# Altium footprint library fastic_readout.PcbLib: 28 footprints (part 1 of 2)
Each footprint in its own frame and in the unit in brackets; x right, y up, seen from the top. Pads: shape width x height; smd on the part's side, far side on the other; paste and mask are expansions set on the pad; w line width, h text height; cw(c..) or ccw(c..) is an arc to the next point about the centre after c.
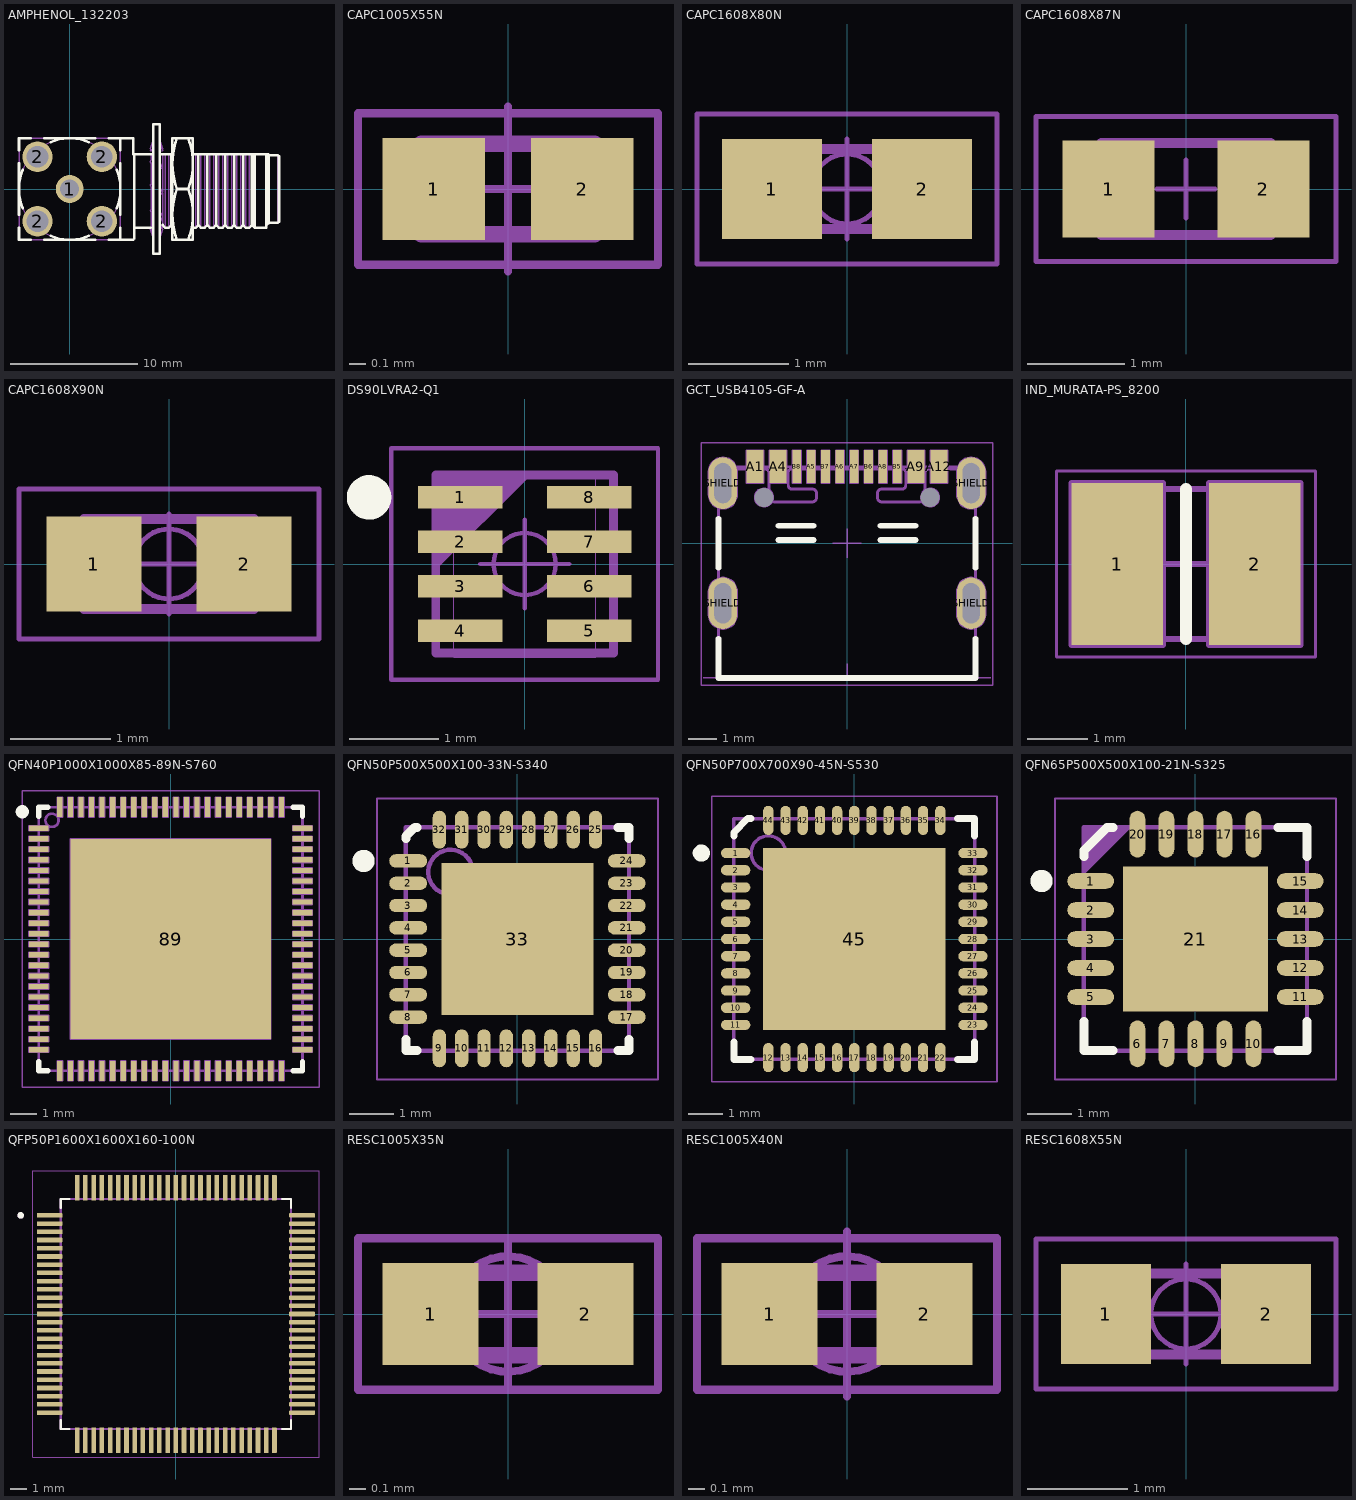
[diagram p0: the footprints below, top view; thin cyan lines are the x and y axes]

## AMPHENOL_132203 [mm]
pads (5):
  round 2.2 hole 1.5: 1(0,0)
  round 2.4 hole 1.7: 2(-2.54,-2.54) 2(-2.54,2.54) 2(2.54,-2.54) 2(2.54,2.54)
Top Overlay:
  lines w0.2: -4,-3.06 -4,-4 -3.06,-4 ; -4,-2.02 -4,2.02 ; -4,3.06 -4,4 -3.06,4 ; -3.702,-1.514 cw(c0,0) -3.702,1.514 ; -2.02,-4 2.02,-4 ; -2.02,4 2.02,4 ; -1.514,-3.702 ccw(c0,0) 1.514,-3.702 ; -1.514,3.702 cw(c0,0) 1.514,3.702 ; 3.06,-4 5,-4 5.1,-3.9 5.1,2.75 ; 3.06,4 5,4 5,2.75 6.6,2.75 ; 3.702,-1.514 ccw(c0,0) 3.702,1.514 ; 4,-4 4,-3.06 ; 4,-2.02 4,2.02 ; 4,3.06 4,4 ; 5.1,-3.05 6.373,-3.05 ; 7.1,2.75 8.1,2.75 ; 7.316,-2.825 7.517,-3.05 7.821,-3.05 8.022,-2.825 ; 8.022,2.75 8.022,-2.825 ; 8.1,-2.912 8.022,-2.825 ; 8.457,-4 cw(c13.877,-2) 8.457,0 ; 8.457,4 ccw(c13.877,2) 8.457,0 ; 9.343,-4 ccw(c3.923,-2) 9.343,0 ; 9.343,4 cw(c3.923,2) 9.343,0 ; 9.7,-3.05 9.938,-3.05 10.139,-2.825 ; 9.7,2.75 15.621,2.75 15.7,2.675 15.7,-2.675 15.507,-2.858 ; 10.139,2.75 10.139,-2.825 ; 10.844,2.75 10.844,-2.825 ; 11.55,2.75 11.55,-2.825 ; 12.255,2.75 12.255,-2.825 ; 12.961,2.75 12.961,-2.825 ; 13.666,2.75 13.666,-2.825 ; 14.372,2.75 14.372,-2.825 ; 14.573,2.75 14.573,-3.05 ; 15.507,2.75 15.507,-3.05 14.573,-3.05 ; 15.7,-2.665 16.4,-2.665 16.5,-2.565 16.5,2.565 16.4,2.665 15.7,2.665 ; 8.457,0 9.343,0 ; 10.139,-2.825 10.339,-3.05 10.643,-3.05 10.844,-2.825 ; 10.844,-2.825 11.045,-3.05 11.349,-3.05 11.55,-2.825 ; 11.55,-2.825 11.751,-3.05 12.055,-3.05 12.255,-2.825 ; 12.255,-2.825 12.456,-3.05 12.76,-3.05 12.961,-2.825 ; 12.961,-2.825 13.162,-3.05 13.466,-3.05 13.666,-2.825 ; 13.666,-2.825 13.867,-3.05 14.171,-3.05 14.372,-2.825 ; 14.372,-2.825 14.573,-3.05 ; 6.6,-5.1 6.6,5.1 7.1,5.1 7.1,-5.1 6.6,-5.1 ; 8.1,-4 8.1,4 9.7,4 9.7,-4 8.1,-4
Mechanical 8:
  lines w0.05: -3.04,-2.54 -2.54,-2.54 ; -3.04,2.54 -2.54,2.54 ; -2.54,-3.04 -2.54,-2.54 ; -2.54,-2.04 -2.54,-2.54 ; -2.54,2.04 -2.54,2.54 ; -2.54,3.04 -2.54,2.54 ; -2.04,-2.54 -2.54,-2.54 ; -2.04,2.54 -2.54,2.54 ; -0.5,0 0,0 ; 0,-0.5 0,0 ; 0,0.5 0,0 ; 0.5,0 0,0 ; 2.04,-2.54 2.54,-2.54 ; 2.04,2.54 2.54,2.54 ; 2.54,-3.04 2.54,-2.54 ; 2.54,-2.04 2.54,-2.54 ; 2.54,2.04 2.54,2.54 ; 2.54,3.04 2.54,2.54 ; 3.04,-2.54 2.54,-2.54 ; 3.04,2.54 2.54,2.54
Mechanical 14:
  circle w0.1: c0,0 r4
  lines w0.1: 4,-4 4,4 ; 5.1,-3.05 6.373,-3.05 ; 5.1,2.75 5.1,-3.9 5,-4 -4,-4 -4,4 5,4 5,2.75 6.6,2.75 ; 6.41,-2.991 6.41,-1.747 ; 6.41,-1.649 6.41,0.189 ; 6.41,0.336 6.41,2.064 ; 6.41,2.277 6.41,2.75 ; 6.413,-3.148 6.352,-3.181 ; 6.413,3.148 6.352,3.001 ; 6.433,-3.195 6.352,-3.181 ; 6.473,-2.98 6.6,-2.837 ; 6.52,3.091 6.352,3.001 ; 6.6,-3.897 6.352,-3.181 ; 6.6,-3.595 6.352,-3.001 6.6,-2.957 ; 6.6,-2.206 ccw(c5.598,-2.351) 6.352,-1.676 ; 6.6,-1.92 6.352,-1.676 ; 6.6,-1.56 6.352,-1.676 ; 6.6,-0.139 6.352,0.29 6.6,0.488 ; 6.6,1.798 6.352,2.145 6.6,2.71 ; 6.6,2.957 6.352,3.001 ; 6.6,3.048 6.352,3.181 6.6,3.897 ; 7.1,-3.881 7.348,-3.181 7.1,-3.048 ; 7.1,-2.701 7.348,-2.145 7.1,-1.798 ; 7.1,-0.49 7.348,-0.29 7.1,0.139 ; 7.1,1.56 7.348,1.676 ; 7.1,1.909 7.348,1.676 ; 7.1,2.107 7.348,1.676 ; 7.1,2.75 8.1,2.75 ; 7.1,2.957 7.348,3.001 7.1,3.579 ; 7.1,3.881 7.348,3.181 ; 7.113,-3.055 7.316,-2.825 ; 7.18,-3.091 7.348,-3.001 ; 7.186,-2.972 7.348,-3.001 ; 7.265,3.195 7.348,3.181 ; 7.285,-3.147 7.348,-3.001 ; 7.285,3.147 7.348,3.181 ; 7.316,-2.215 7.316,-2.825 ; 7.316,-2.101 7.316,-0.315 ; 7.316,-0.236 7.316,1.661 ; 7.316,1.72 7.316,2.75 ; 7.517,2.75 7.517,-3.05 ; 7.821,2.75 7.821,-3.05 ; 8.022,2.75 8.022,-2.825 ; 8.1,-2.912 8.022,-2.825 ; 8.457,-4 cw(c13.877,-2) 8.457,0 ; 8.457,4 ccw(c13.877,2) 8.457,0 ; 9.343,-4 ccw(c3.923,-2) 9.343,0 ; 9.343,4 cw(c3.923,2) 9.343,0 ; 9.7,-3.05 9.938,-3.05 ; 9.7,2.75 15.621,2.75 15.7,2.675 15.7,-2.675 15.507,-2.858 ; 9.938,2.75 9.938,-3.05 ; 10.139,2.75 10.139,-2.825 ; 10.339,2.75 10.339,-3.05 ; 10.644,2.75 10.643,-3.05 ; 10.844,2.75 10.844,-2.825 ; 11.045,2.75 11.045,-3.05 ; 11.349,2.75 11.349,-3.05 ; 11.55,2.75 11.55,-2.825 ; 11.751,2.75 11.751,-3.05 ; 12.055,2.75 12.055,-3.05 ; 12.255,2.75 12.255,-2.825 ; 12.456,2.75 12.456,-3.05 ; 12.76,2.75 12.76,-3.05 ; 12.961,2.75 12.961,-2.825 ; 13.162,2.75 13.162,-3.05 ; 13.466,2.75 13.466,-3.05 ; 13.666,2.75 13.666,-2.825 ; 13.867,2.75 13.867,-3.05 ; 14.171,2.75 14.171,-3.05 ; 14.372,2.75 14.372,-2.825 ; 14.573,2.75 14.573,-3.05 ; 15.507,2.75 15.507,-3.05 14.573,-3.05 ; 15.7,-2.665 16.4,-2.665 ; 15.7,2.665 16.4,2.665 ; 7.316,-2.825 7.517,-3.05 ; 7.517,-3.05 7.821,-3.05 ; 7.821,-3.05 8.022,-2.825 ; 8.457,0 9.343,0 ; 9.938,-3.05 10.139,-2.825 ; 10.139,-2.825 10.339,-3.05 ; 10.339,-3.05 10.643,-3.05 ; 10.643,-3.05 10.844,-2.825 ; 10.844,-2.825 11.045,-3.05 ; 11.045,-3.05 11.349,-3.05 ; 11.349,-3.05 11.55,-2.825 ; 11.55,-2.825 11.751,-3.05 ; 11.751,-3.05 12.055,-3.05 ; 12.055,-3.05 12.255,-2.825 ; 12.255,-2.825 12.456,-3.05 ; 12.456,-3.05 12.76,-3.05 ; 12.76,-3.05 12.961,-2.825 ; 12.961,-2.825 13.162,-3.05 ; 13.162,-3.05 13.466,-3.05 ; 13.466,-3.05 13.666,-2.825 ; 13.666,-2.825 13.867,-3.05 ; 13.867,-3.05 14.171,-3.05 ; 14.171,-3.05 14.372,-2.825 ; 14.372,-2.825 14.573,-3.05 ; 16.4,-2.665 16.4,2.665 ; 16.4,-2.665 16.5,-2.565 16.5,2.565 16.4,2.665 ; 6.6,-5.1 6.6,5.1 7.1,5.1 7.1,-5.1 6.6,-5.1 ; 8.1,-4 8.1,4 9.7,4 9.7,-4 8.1,-4
3D body "AMPHENOL_132203_2.stp": height 10.97, standoff 1.73, extent 8.1,-4 9.7,4
3D body "AMPHENOL_132203_1.stp": height 11.45, standoff 1.25, extent 6.352,-5.1 7.348,5.1
3D body "AMPHENOL_132203.stp": height 10.44, standoff -3.94, extent -4,-4 16.5,4

## CAPC1005X55N [mm]
pads (2):
  rect 0.62x0.62 smd: 1(-0.45,0) 2(0.45,0)
Mechanical 14:
  lines w0.1: -0.525,-0.275 0.525,-0.275 0.525,0.275 -0.525,0.275 -0.525,-0.275
Mechanical 15:
  lines w0.05: -0.5,0 0.5,0 ; 0,-0.5 0,0.5 ; -0.91,-0.46 0.91,-0.46 0.91,0.46 -0.91,0.46 -0.91,-0.46
3D body "CAPC1005X55N.stp": height 0.55, standoff 0, extent -0.525,-0.275 0.525,0.275

## CAPC1608X80N [mm]
pads (2):
  rect 1x1 smd: 1(-0.75,0) 2(0.75,0)
Mechanical 14:
  lines w0.1: -0.8,-0.4 0.8,-0.4 0.8,0.4 -0.8,0.4 -0.8,-0.4
Mechanical 15:
  circle w0.05: c0,0 r0.35
  lines w0.05: -0.5,0 0.5,0 ; 0,-0.5 0,0.5 ; -1.5,-0.75 1.5,-0.75 1.5,0.75 -1.5,0.75 -1.5,-0.75
3D body "CAPC1608X80N.stp": height 0.8, standoff 0, extent -0.875,-0.475 0.875,0.475

## CAPC1608X87N [mm]
pads (2):
  rect 0.95x1 smd: 1(-0.8,0) 2(0.8,0)
Mechanical 14:
  lines w0.1: -0.875,-0.475 0.875,-0.475 0.875,0.475 -0.875,0.475 -0.875,-0.475
Mechanical 15:
  lines w0.05: -0.3,0 0.3,0 ; 0,-0.3 0,0.3 ; -1.55,-0.75 -1.55,0.75 1.55,0.75 1.55,-0.75 -1.55,-0.75
3D body "CAPC1608X87N.stp": height 0.87, standoff 0, extent -0.875,-0.475 0.875,0.475

## CAPC1608X90N [mm]
pads (2):
  rect 0.95x0.95 smd: 1(-0.75,0) 2(0.75,0)
Mechanical 14:
  lines w0.1: -0.85,-0.45 0.85,-0.45 0.85,0.45 -0.85,0.45 -0.85,-0.45
Mechanical 15:
  circle w0.05: c0,0 r0.35
  lines w0.05: -0.5,0 0.5,0 ; 0,-0.5 0,0.5 ; -1.5,-0.75 1.5,-0.75 1.5,0.75 -1.5,0.75 -1.5,-0.75
3D body "CAPC1608X90N.stp": height 0.9, standoff 0, extent -0.85,-0.45 0.85,0.45

## DS90LVRA2-Q1 [mm]
pads (8):
  rect 0.95x0.25 smd: 1(-0.725,0.75) 2(-0.725,0.25) 3(-0.725,-0.25) 4(-0.725,-0.75) 5(0.725,-0.75) 6(0.725,-0.25) 7(0.725,0.25) 8(0.725,0.75)
Top Overlay:
  circle w0.25: c-1.75,0.75 r0.125
Mechanical 8:
  lines w0.001: -0.8,-1.05 0.8,-1.05 0.8,1.05 -0.8,1.05 -0.8,-1.05
Mechanical 14:
  lines w0.1: -1,0 0,1 ; -1,0.1 -0.1,1 ; -1,0.2 -0.2,1 ; -1,0.3 -0.3,1 ; -1,0.4 -0.4,1 ; -1,0.5 -0.5,1 ; -1,0.6 -0.6,1 ; -1,0.7 -0.7,1 ; -1,0.8 -0.8,1 ; -1,0.9 -0.9,1 ; -1,-1 -1,1 1,1 1,-1 -1,-1
Mechanical 15:
  circle w0.05: c0,0 r0.35
  lines w0.05: -0.5,0 0.5,0 ; 0,-0.5 0,0.5 ; -1.5,-1.3 1.5,-1.3 1.5,1.3 -1.5,1.3 -1.5,-1.3
3D body "SON50P200X200X80-7N-R61X142.stp": height 0.8, standoff 0, extent -1,-1 1,1

## GCT_USB4105-GF-A [mm]
pads (18):
  rect 0.6x1.15 smd: A1(-3.2,2.665) A4(-2.4,2.665) A9(2.4,2.665) A12(3.2,2.665)
  rect 0.3x1.15 smd: A5(-1.25,2.665) A6(-0.25,2.665) A7(0.25,2.665) A8(1.25,2.665) B5(1.75,2.665) B6(0.75,2.665) B7(-0.75,2.665) B8(-1.75,2.665)
  round 0.15 hole 0.65 mask+0.25: MEC1(-2.89,1.59) MEC2(2.89,1.59)
  oval 1x1.8 hole 0.6 slot 1.4 at 90 deg: SHIELD(-4.32,-2.09) SHIELD(-4.32,2.09) SHIELD(4.32,-2.09) SHIELD(4.32,2.09)
Top Overlay:
  lines w0.2: -4.47,-3.327 -4.47,-4.69 4.47,-4.69 4.47,-3.327 ; -4.47,-0.853 -4.47,0.853 ; -2.384,0.11 -1.169,0.11 ; -2.384,0.61 -1.169,0.61 ; 1.167,0.11 2.382,0.11 ; 1.167,0.61 2.382,0.61 ; 4.47,-0.853 4.47,0.853
Mechanical 8:
  circle w0.05: c2.89,1.59 r0.325
  circle w0.05: c-2.89,1.59 r0.325
  lines w0.05: -5,-4.69 5,-4.69 ; -4.52,-2.09 -4.32,-2.09 ; -4.52,2.09 -4.32,2.09 ; -4.32,-2.29 -4.32,-2.09 ; -4.32,-1.89 -4.32,-2.09 ; -4.32,1.89 -4.32,2.09 ; -4.32,2.29 -4.32,2.09 ; -4.12,-2.09 -4.32,-2.09 ; -4.12,2.09 -4.32,2.09 ; -3.09,1.59 -2.89,1.59 ; -2.89,1.39 -2.89,1.59 ; -2.89,1.79 -2.89,1.59 ; -2.69,1.59 -2.89,1.59 ; -0.5,0 0,0 ; 0,-4.69 0,-4.19 ; 0,-0.5 0,0 ; 0,0.5 0,0 ; 0.5,0 0,0 ; 2.69,1.59 2.89,1.59 ; 2.89,1.39 2.89,1.59 ; 2.89,1.79 2.89,1.59 ; 3.09,1.59 2.89,1.59 ; 4.12,-2.09 4.32,-2.09 ; 4.12,2.09 4.32,2.09 ; 4.32,-2.29 4.32,-2.09 ; 4.32,-1.89 4.32,-2.09 ; 4.32,1.89 4.32,2.09 ; 4.32,2.29 4.32,2.09 ; 4.52,-2.09 4.32,-2.09 ; 4.52,2.09 4.32,2.09 ; -3.5,3.24 -2.9,3.24 ; -3.5,3.24 -3.5,2.09 -2.9,2.09 -2.9,3.24 ; -3.5,3.24 -3.2,2.665 -2.9,3.24 ; -2.7,3.24 -2.1,3.24 ; -2.7,3.24 -2.7,2.09 -2.1,2.09 -2.1,3.24 ; -2.7,3.24 -2.4,2.665 -2.1,3.24 ; -1.9,3.24 -1.6,3.24 ; -1.9,3.24 -1.9,2.09 -1.6,2.09 -1.6,3.24 ; -1.9,3.24 -1.75,2.665 -1.6,3.24 ; -1.4,3.24 -1.1,3.24 ; -1.4,3.24 -1.4,2.09 -1.1,2.09 -1.1,3.24 ; -1.4,3.24 -1.25,2.665 -1.1,3.24 ; -0.9,3.24 -0.6,3.24 ; -0.9,3.24 -0.9,2.09 -0.6,2.09 -0.6,3.24 ; -0.9,3.24 -0.75,2.665 -0.6,3.24 ; -0.4,3.24 -0.1,3.24 ; -0.4,3.24 -0.4,2.09 -0.1,2.09 -0.1,3.24 ; -0.4,3.24 -0.25,2.665 -0.1,3.24 ; 0.1,3.24 0.4,3.24 ; 0.1,3.24 0.1,2.09 0.4,2.09 0.4,3.24 ; 0.1,3.24 0.25,2.665 0.4,3.24 ; 0.6,3.24 0.9,3.24 ; 0.6,3.24 0.6,2.09 0.9,2.09 0.9,3.24 ; 0.6,3.24 0.75,2.665 0.9,3.24 ; 1.1,3.24 1.4,3.24 ; 1.1,3.24 1.1,2.09 1.4,2.09 1.4,3.24 ; 1.1,3.24 1.25,2.665 1.4,3.24 ; 1.6,3.24 1.9,3.24 ; 1.6,3.24 1.6,2.09 1.9,2.09 1.9,3.24 ; 1.6,3.24 1.75,2.665 1.9,3.24 ; 2.1,3.24 2.7,3.24 ; 2.1,3.24 2.1,2.09 2.7,2.09 2.7,3.24 ; 2.1,3.24 2.4,2.665 2.7,3.24 ; 2.9,3.24 3.5,3.24 ; 2.9,3.24 2.9,2.09 3.5,2.09 3.5,3.24 ; 2.9,3.24 3.2,2.665 3.5,3.24 ; -4.82,-2.49 ccw(c-4.32,-2.49) -3.82,-2.49 -3.82,-1.69 ccw(c-4.32,-1.69) -4.82,-1.69 -4.82,-2.49 ; -4.82,1.69 ccw(c-4.32,1.69) -3.82,1.69 -3.82,2.49 ccw(c-4.32,2.49) -4.82,2.49 -4.82,1.69 ; -4.62,-2.49 ccw(c-4.32,-2.49) -4.02,-2.49 -4.02,-1.69 ccw(c-4.32,-1.69) -4.62,-1.69 -4.62,-2.49 ; -4.62,1.69 ccw(c-4.32,1.69) -4.02,1.69 -4.02,2.49 ccw(c-4.32,2.49) -4.62,2.49 -4.62,1.69 ; 3.82,-2.49 ccw(c4.32,-2.49) 4.82,-2.49 4.82,-1.69 ccw(c4.32,-1.69) 3.82,-1.69 3.82,-2.49 ; 3.82,1.69 ccw(c4.32,1.69) 4.82,1.69 4.82,2.49 ccw(c4.32,2.49) 3.82,2.49 3.82,1.69 ; 4.02,-2.49 ccw(c4.32,-2.49) 4.62,-2.49 4.62,-1.69 ccw(c4.32,-1.69) 4.02,-1.69 4.02,-2.49 ; 4.02,1.69 ccw(c4.32,1.69) 4.62,1.69 4.62,2.49 ccw(c4.32,2.49) 4.02,2.49 4.02,1.69
  text "PCB Edge" at -3.297,-4.207 h1
Mechanical 14:
  lines w0.1: -4.47,1.96 -4.237,1.96 ccw(c-4.237,2.055) -4.143,2.055 -4.143,2.473 cw(c-4.031,2.473) -4.031,2.585 -2.86,2.585 cw(c-2.86,2.435) -2.71,2.435 -2.71,1.635 ccw(c-2.51,1.635) -2.51,1.435 -1.21,1.435 ccw(c-1.21,1.585) -1.06,1.585 -1.06,1.735 ccw(c-1.21,1.735) -1.21,1.885 -1.917,1.885 cw(c-1.917,2.013) -2.045,2.013 -2.045,2.456 cw(c-1.917,2.456) -1.917,2.585 1.917,2.585 cw(c1.917,2.456) 2.045,2.456 2.045,2.013 cw(c1.917,2.013) 1.917,1.885 1.21,1.885 ccw(c1.21,1.735) 1.06,1.735 1.06,1.585 ccw(c1.21,1.585) 1.21,1.435 2.51,1.435 ccw(c2.51,1.635) 2.71,1.635 2.71,2.435 cw(c2.86,2.435) 2.86,2.585 4.031,2.585 cw(c4.031,2.473) 4.142,2.473 4.142,2.055 ccw(c4.237,2.055) 4.237,1.96 4.47,1.96 ; -3.425,2.66 -3.425,3.01 -3.225,3.01 -3.225,2.66 ; -3.175,2.66 -3.175,3.01 -2.975,3.01 -2.975,2.66 ; -2.625,2.66 -2.625,3.01 -2.425,3.01 -2.425,2.66 ; -2.384,0.11 -1.169,0.11 ; -2.384,0.61 -1.169,0.61 ; -2.375,2.66 -2.375,3.01 -2.175,3.01 -2.175,2.66 ; -1.85,2.66 -1.85,3.01 -1.65,3.01 -1.65,2.66 ; -1.35,2.66 -1.35,3.01 -1.15,3.01 -1.15,2.66 ; -0.85,2.66 -0.85,3.01 -0.65,3.01 -0.65,2.66 ; -0.35,2.66 -0.35,3.01 -0.15,3.01 -0.15,2.66 ; 0.15,2.66 0.15,3.01 0.35,3.01 0.35,2.66 ; 0.65,2.66 0.65,3.01 0.85,3.01 0.85,2.66 ; 1.15,2.66 1.15,3.01 1.35,3.01 1.35,2.66 ; 1.167,0.11 2.382,0.11 ; 1.167,0.61 2.382,0.61 ; 1.65,2.66 1.65,3.01 1.85,3.01 1.85,2.66 ; 2.175,2.66 2.175,3.01 2.375,3.01 2.375,2.66 ; 2.425,2.66 2.425,3.01 2.625,3.01 2.625,2.66 ; 2.975,2.66 2.975,3.01 3.175,3.01 3.175,2.66 ; 3.225,2.66 3.225,3.01 3.425,3.01 3.425,2.66 ; -4.47,-4.69 4.47,-4.69 4.47,2.66 -4.47,2.66 -4.47,-4.69
Mechanical 15:
  lines w0.05: -5.07,-4.94 -5.07,3.49 5.07,3.49 5.07,-4.94 -5.07,-4.94
3D body "GCT_USB4105-GF-A.stp": height 3.26, standoff -0.95, extent -4.47,-4.69 4.47,3.01

## IND_MURATA-PS_8200 [mm]
pads (2):
  rect 1.52x2.7 smd: 1(-1.145,0) 2(1.145,0)
Top Overlay:
  lines w0.2: 0,-1.25 0,1.25
Mechanical 8:
  lines w0.1: -1.645,0 -1.145,0 ; -1.145,-0.5 -1.145,0 ; -1.145,0.5 -1.145,0 ; -0.645,0 -1.145,0 ; -0.5,0 0,0 ; 0,-0.5 0,0 ; 0,0.5 0,0 ; 0.5,0 0,0 ; 0.645,0 1.145,0 ; 1.145,-0.5 1.145,0 ; 1.145,0.5 1.145,0 ; 1.645,0 1.145,0 ; -1.905,-1.35 -1.905,1.35 -0.385,1.35 -0.385,-1.35 -1.905,-1.35 ; 0.385,-1.35 0.385,1.35 1.905,1.35 1.905,-1.35 0.385,-1.35
Mechanical 14:
  lines w0.1: -1.193,-1.25 cw(c-1.193,-1.15) -1.293,-1.15 -1.293,1.15 cw(c-1.193,1.15) -1.193,1.25 ; 1.193,-1.25 ccw(c1.193,-1.15) 1.293,-1.15 1.293,1.15 ccw(c1.193,1.15) 1.193,1.25 ; -1.6,-1.25 -1.6,1.25 1.6,1.25 1.6,-1.25 -1.6,-1.25
Mechanical 15:
  lines w0.05: -2.155,-1.55 2.155,-1.55 2.155,1.55 -2.155,1.55 -2.155,-1.55
3D body "IND_MURATA-PS_8200.stp": height 2.3, standoff 0, extent -1.6,-1.25 1.6,1.25

## QFN40P1000X1000X85-89N-S760 [mm]
pads (89):
  rect 0.75x0.2 smd: 1(-5,4.2) 2(-5,3.8) 3(-5,3.4) 4(-5,3) 5(-5,2.6) 6(-5,2.2) 7(-5,1.8) 8(-5,1.4) 9(-5,1) 10(-5,0.6) 11(-5,0.2) 12(-5,-0.2) 13(-5,-0.6) 14(-5,-1) 15(-5,-1.4) 16(-5,-1.8) 17(-5,-2.2) 18(-5,-2.6) 19(-5,-3) 20(-5,-3.4) 21(-5,-3.8) 22(-5,-4.2) 45(5,-4.2) 46(5,-3.8) 47(5,-3.4) 48(5,-3) 49(5,-2.6) 50(5,-2.2) 51(5,-1.8) 52(5,-1.4) 53(5,-1) 54(5,-0.6) 55(5,-0.2) 56(5,0.2) 57(5,0.6) 58(5,1) 59(5,1.4) 60(5,1.8) 61(5,2.2) 62(5,2.6) 63(5,3) 64(5,3.4) 65(5,3.8) 66(5,4.2)
  rect 0.2x0.75 smd: 23(-4.2,-5) 24(-3.8,-5) 25(-3.4,-5) 26(-3,-5) 27(-2.6,-5) 28(-2.2,-5) 29(-1.8,-5) 30(-1.4,-5) 31(-1,-5) 32(-0.6,-5) 33(-0.2,-5) 34(0.2,-5) 35(0.6,-5) 36(1,-5) 37(1.4,-5) 38(1.8,-5) 39(2.2,-5) 40(2.6,-5) 41(3,-5) 42(3.4,-5) 43(3.8,-5) 44(4.2,-5) 67(4.2,5) 68(3.8,5) 69(3.4,5) 70(3,5) 71(2.6,5) 72(2.2,5) 73(1.8,5) 74(1.4,5) 75(1,5) 76(0.6,5) 77(0.2,5) 78(-0.2,5) 79(-0.6,5) 80(-1,5) 81(-1.4,5) 82(-1.8,5) 83(-2.2,5) 84(-2.6,5) 85(-3,5) 86(-3.4,5) 87(-3.8,5) 88(-4.2,5)
  rect 7.6x7.6 smd: 89(0,0)
Top Overlay:
  circle w0.25: c-5.625,4.825 r0.125
  lines w0.2: -5,-4.65 -5,-5 -4.65,-5 ; -5,4.65 -5,5 -4.65,5 ; 4.65,-5 5,-5 5,-4.65 ; 4.65,5 5,5 5,4.65
Top Paste:
  region: -2.6,-2.6 -2.6,-0.42 -0.42,-0.42 -0.42,-2.6
  region: 0.42,-2.6 0.42,-0.42 2.6,-0.42 2.6,-2.6
  region: -2.6,0.42 -2.6,2.6 -0.42,2.6 -0.42,0.42
  region: 0.42,0.42 0.42,2.6 2.6,2.6 2.6,0.42
Mechanical 8:
  drawing of 536 lines, arcs and shapes, not listed
Mechanical 14:
  circle w0.1: c-4.5,4.5 r0.25
  circle w0.1: c-4.5,4.5 r0.25
  lines w0.1: -5,-5 5,-5 5,5 -5,5 -5,-5
Mechanical 15:
  circle w0.05: c0,0 r0.35
  lines w0.05: -0.5,0 0.5,0 ; 0,-0.5 0,0.5 ; -5.625,-5.625 5.625,-5.625 5.625,5.625 -5.625,5.625 -5.625,-5.625
3D body "QFN40P1000X1000X85-89N-S760.stp": height 0.8, standoff 0, extent -5,-5 5,5

## QFN50P500X500X100-33N-S340 [mm]
pads (33):
  oval 0.85x0.3 smd: 1(-2.45,1.75) 2(-2.45,1.25) 3(-2.45,0.75) 4(-2.45,0.25) 5(-2.45,-0.25) 6(-2.45,-0.75) 7(-2.45,-1.25) 8(-2.45,-1.75) 17(2.45,-1.75) 18(2.45,-1.25) 19(2.45,-0.75) 20(2.45,-0.25) 21(2.45,0.25) 22(2.45,0.75) 23(2.45,1.25) 24(2.45,1.75)
  oval 0.3x0.85 smd: 9(-1.75,-2.45) 10(-1.25,-2.45) 11(-0.75,-2.45) 12(-0.25,-2.45) 13(0.25,-2.45) 14(0.75,-2.45) 15(1.25,-2.45) 16(1.75,-2.45) 25(1.75,2.45) 26(1.25,2.45) 27(0.75,2.45) 28(0.25,2.45) 29(-0.25,2.45) 30(-0.75,2.45) 31(-1.25,2.45) 32(-1.75,2.45)
  rect 3.4x3.4 smd: 33(0,0)
Top Overlay:
  circle w0.25: c-3.45,1.75 r0.125
  lines w0.2: -2.5,-2.25 -2.5,-2.5 -2.25,-2.5 ; -2.5,2.25 -2.5,2.3 -2.3,2.5 -2.25,2.5 ; 2.25,-2.5 2.5,-2.5 2.5,-2.25 ; 2.25,2.5 2.5,2.5 2.5,2.25
Mechanical 14:
  circle w0.1: c-1.5,1.5 r0.5
  lines w0.1: -2.5,-2.5 2.5,-2.5 2.5,2.5 -2.5,2.5 -2.5,-2.5
Mechanical 15:
  circle w0.05: c0,0 r0.35
  lines w0.05: -0.5,0 0.5,0 ; 0,-0.5 0,0.5 ; -3.15,-3.15 3.15,-3.15 3.15,3.15 -3.15,3.15 -3.15,-3.15
3D body "QFN50P500X500X100-33N-S340.stp": height 1, standoff 0, extent -2.5,-2.5 2.5,2.5

## QFN50P700X700X90-45N-S530 [mm]
pads (45):
  oval 0.85x0.3 smd: 1(-3.45,2.5) 2(-3.45,2) 3(-3.45,1.5) 4(-3.45,1) 5(-3.45,0.5) 6(-3.45,0) 7(-3.45,-0.5) 8(-3.45,-1) 9(-3.45,-1.5) 10(-3.45,-2) 11(-3.45,-2.5) 23(3.45,-2.5) 24(3.45,-2) 25(3.45,-1.5) 26(3.45,-1) 27(3.45,-0.5) 28(3.45,0) 29(3.45,0.5) 30(3.45,1) 31(3.45,1.5) 32(3.45,2) 33(3.45,2.5)
  oval 0.3x0.85 smd: 12(-2.5,-3.45) 13(-2,-3.45) 14(-1.5,-3.45) 15(-1,-3.45) 16(-0.5,-3.45) 17(0,-3.45) 18(0.5,-3.45) 19(1,-3.45) 20(1.5,-3.45) 21(2,-3.45) 22(2.5,-3.45) 34(2.5,3.45) 35(2,3.45) 36(1.5,3.45) 37(1,3.45) 38(0.5,3.45) 39(0,3.45) 40(-0.5,3.45) 41(-1,3.45) 42(-1.5,3.45) 43(-2,3.45) 44(-2.5,3.45)
  rect 5.3x5.3 smd: 45(0,0)
Top Overlay:
  circle w0.25: c-4.45,2.5 r0.125
  lines w0.2: -3.5,-3 -3.5,-3.5 -3,-3.5 ; -3.5,3 -3.5,3.1 -3.1,3.5 -3,3.5 ; 3,-3.5 3.5,-3.5 3.5,-3 ; 3,3.5 3.5,3.5 3.5,3
Top Paste:
  region: 0.32,0.32 0.32,1.96 1.96,1.96 1.96,0.32
  region: -1.96,0.32 -1.96,1.96 -0.32,1.96 -0.32,0.32
  region: 0.32,-1.96 0.32,-0.32 1.96,-0.32 1.96,-1.96
  region: -1.96,-1.96 -1.96,-0.32 -0.32,-0.32 -0.32,-1.96
Mechanical 14:
  circle w0.1: c-2.5,2.5 r0.5
  lines w0.1: -3.5,-3.5 3.5,-3.5 3.5,3.5 -3.5,3.5 -3.5,-3.5
Mechanical 15:
  circle w0.05: c0,0 r0.35
  lines w0.05: -0.5,0 0.5,0 ; 0,-0.5 0,0.5 ; -4.15,-4.15 4.15,-4.15 4.15,4.15 -4.15,4.15 -4.15,-4.15
3D body "QFN50P700X700X90-45N-S530.stp": height 0.9, standoff 0, extent -3.5,-3.5 3.5,3.5

## QFN65P500X500X100-21N-S325 [mm]
pads (21):
  oval 1.05x0.35 smd: 1(-2.35,1.3) 2(-2.35,0.65) 3(-2.35,0) 4(-2.35,-0.65) 5(-2.35,-1.3) 11(2.35,-1.3) 12(2.35,-0.65) 13(2.35,0) 14(2.35,0.65) 15(2.35,1.3)
  oval 0.35x1.05 smd: 6(-1.3,-2.35) 7(-0.65,-2.35) 8(0,-2.35) 9(0.65,-2.35) 10(1.3,-2.35) 16(1.3,2.35) 17(0.65,2.35) 18(0,2.35) 19(-0.65,2.35) 20(-1.3,2.35)
  rect 3.25x3.25 smd: 21(0,0)
Top Overlay:
  circle w0.25: c-3.45,1.3 r0.125
  lines w0.2: -2.5,-1.85 -2.5,-2.5 -1.85,-2.5 ; -2.5,1.85 -2.5,1.98 -1.98,2.5 -1.85,2.5 ; 1.85,-2.5 2.5,-2.5 2.5,-1.85 ; 1.85,2.5 2.5,2.5 2.5,1.85
Mechanical 14:
  lines w0.1: -2.5,1.5 -1.5,2.5 ; -2.5,1.6 -1.6,2.5 ; -2.5,1.7 -1.7,2.5 ; -2.5,1.8 -1.8,2.5 ; -2.5,1.9 -1.9,2.5 ; -2.5,2 -2,2.5 ; -2.5,2.1 -2.1,2.5 ; -2.5,2.2 -2.2,2.5 ; -2.5,2.3 -2.3,2.5 ; -2.5,2.4 -2.4,2.5 ; -2.5,-2.5 -2.5,2.5 2.5,2.5 2.5,-2.5 -2.5,-2.5
Mechanical 15:
  lines w0.05: -0.5,0 0.5,0 ; 0,-0.5 0,0.5 ; -3.15,-3.15 -3.15,3.15 3.15,3.15 3.15,-3.15 -3.15,-3.15
3D body "QFN65P500X500X100-21N-S325.stp": height 1, standoff 0, extent -2.575,-2.575 2.575,2.575

## QFP50P1600X1600X160-100N [mm]
pads (100):
  rrect25% 1.56x0.28 smd: 1(-7.68,6) 2(-7.68,5.5) 3(-7.68,5) 4(-7.68,4.5) 5(-7.68,4) 6(-7.68,3.5) 7(-7.68,3) 8(-7.68,2.5) 9(-7.68,2) 10(-7.68,1.5) 11(-7.68,1) 12(-7.68,0.5) 13(-7.68,0) 14(-7.68,-0.5) 15(-7.68,-1) 16(-7.68,-1.5) 17(-7.68,-2) 18(-7.68,-2.5) 19(-7.68,-3) 20(-7.68,-3.5) 21(-7.68,-4) 22(-7.68,-4.5) 23(-7.68,-5) 24(-7.68,-5.5) 25(-7.68,-6) 51(7.68,-6) 52(7.68,-5.5) 53(7.68,-5) 54(7.68,-4.5) 55(7.68,-4) 56(7.68,-3.5) 57(7.68,-3) 58(7.68,-2.5) 59(7.68,-2) 60(7.68,-1.5) 61(7.68,-1) 62(7.68,-0.5) 63(7.68,0) 64(7.68,0.5) 65(7.68,1) 66(7.68,1.5) 67(7.68,2) 68(7.68,2.5) 69(7.68,3) 70(7.68,3.5) 71(7.68,4) 72(7.68,4.5) 73(7.68,5) 74(7.68,5.5) 75(7.68,6)
  rrect25% 0.28x1.56 smd: 26(-6,-7.68) 27(-5.5,-7.68) 28(-5,-7.68) 29(-4.5,-7.68) 30(-4,-7.68) 31(-3.5,-7.68) 32(-3,-7.68) 33(-2.5,-7.68) 34(-2,-7.68) 35(-1.5,-7.68) 36(-1,-7.68) 37(-0.5,-7.68) 38(0,-7.68) 39(0.5,-7.68) 40(1,-7.68) 41(1.5,-7.68) 42(2,-7.68) 43(2.5,-7.68) 44(3,-7.68) 45(3.5,-7.68) 46(4,-7.68) 47(4.5,-7.68) 48(5,-7.68) 49(5.5,-7.68) 50(6,-7.68) 76(6,7.68) 77(5.5,7.68) 78(5,7.68) 79(4.5,7.68) 80(4,7.68) 81(3.5,7.68) 82(3,7.68) 83(2.5,7.68) 84(2,7.68) 85(1.5,7.68) 86(1,7.68) 87(0.5,7.68) 88(0,7.68) 89(-0.5,7.68) 90(-1,7.68) 91(-1.5,7.68) 92(-2,7.68) 93(-2.5,7.68) 94(-3,7.68) 95(-3.5,7.68) 96(-4,7.68) 97(-4.5,7.68) 98(-5,7.68) 99(-5.5,7.68) 100(-6,7.68)
Top Overlay:
  circle w0.2: c-9.44,6 r0.1
  lines w0.127: -7,-6.46 -7,-7 -6.46,-7 ; -7,6.46 -7,7 -6.46,7 ; 6.46,-7 7,-7 7,-6.46 ; 6.46,7 7,7 7,6.46
Mechanical 13:
  circle w0.2: c-9.44,6 r0.1
  lines w0.127: -7,-7 -7,7 7,7 7,-7 -7,-7
Mechanical 15:
  lines w0.05: -8.71,-8.71 -8.71,8.71 8.71,8.71 8.71,-8.71 -8.71,-8.71

## RESC1005X35N [mm]
pads (2):
  rect 0.58x0.62 smd: 1(-0.47,0) 2(0.47,0)
Mechanical 14:
  lines w0.1: -0.5,-0.25 -0.5,0.25 0.5,0.25 0.5,-0.25 -0.5,-0.25
Mechanical 15:
  circle w0.05: c0,0 r0.35
  lines w0.05: -0.5,0 0.5,0 ; 0,-0.46 0,0.46 ; -0.91,-0.46 -0.91,0.46 0.91,0.46 0.91,-0.46 -0.91,-0.46
3D body "RESC1005X35N.stp": height 0.35, standoff 0, extent -0.525,-0.275 0.525,0.275

## RESC1005X40N [mm]
pads (2):
  rect 0.58x0.62 smd: 1(-0.47,0) 2(0.47,0)
Mechanical 14:
  lines w0.1: -0.5,-0.25 0.5,-0.25 0.5,0.25 -0.5,0.25 -0.5,-0.25
Mechanical 15:
  circle w0.05: c0,0 r0.35
  lines w0.05: -0.5,0 0.5,0 ; 0,-0.5 0,0.5 ; -0.91,-0.46 0.91,-0.46 0.91,0.46 -0.91,0.46 -0.91,-0.46
3D body "RESC1005X40N.stp": height 0.4, standoff 0, extent -0.525,-0.275 0.525,0.275

## RESC1608X55N [mm]
pads (2):
  rect 0.9x1 smd: 1(-0.8,0) 2(0.8,0)
Mechanical 14:
  lines w0.1: -0.8,-0.405 0.8,-0.405 0.8,0.405 -0.8,0.405 -0.8,-0.405
Mechanical 15:
  circle w0.05: c0,0 r0.35
  lines w0.05: -0.5,0 0.5,0 ; 0,-0.5 0,0.5 ; -1.5,-0.75 -1.5,0.75 1.5,0.75 1.5,-0.75 -1.5,-0.75
3D body "RESC1608X55N.stp": height 0.55, standoff 0, extent -0.875,-0.475 0.875,0.475